# Altium schematic symbol library SCH - IC-MCU - TMS5701224CPGEQQ1.SchLib: 1 symbol
Pins are listed as number, name and electrical type; pins without a type are passive.

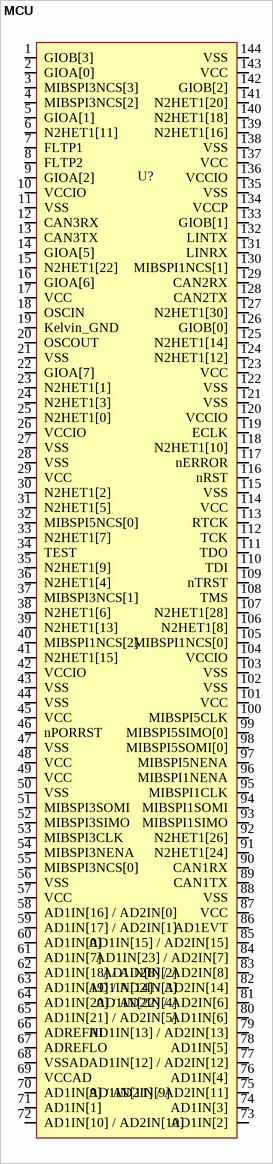
[diagram p0: symbol MCU]

## MCU
designator U?
pins: 1 GIOB[3] (io), 2 GIOA[0] (io), 3 MIBSPI3NCS[3] (io), 4 MIBSPI3NCS[2] (io), 5 GIOA[1] (io), 6 N2HET1[11] (io), 7 FLTP1, 8 FLTP2, 9 GIOA[2] (io), 10 VCCIO (power), 11 VSS (power), 12 CAN3RX (io), 13 CAN3TX (io), 14 GIOA[5] (io), 15 N2HET1[22] (io), 16 GIOA[6] (io), 17 VCC (power), 18 OSCIN (in), 19 Kelvin_GND (in), 20 OSCOUT (out), 21 VSS (power), 22 GIOA[7] (io), 23 N2HET1[1] (io), 24 N2HET1[3] (io), 25 N2HET1[0] (io), 26 VCCIO (power), 27 VSS (power), 28 VSS (power), 29 VCC (power), 30 N2HET1[2] (io), 31 N2HET1[5] (io), 32 MIBSPI5NCS[0] (io), 33 N2HET1[7] (io), 34 TEST (in), 35 N2HET1[9] (io), 36 N2HET1[4] (io), 37 MIBSPI3NCS[1] (io), 38 N2HET1[6] (io), 39 N2HET1[13] (io), 40 MIBSPI1NCS[2] (io), 41 N2HET1[15] (io), 42 VCCIO (power), 43 VSS (power), 44 VSS (power), 45 VCC (power), 46 nPORRST (in), 47 VSS (power), 48 VCC (power), 49 VCC (power), 50 VSS (power), 51 MIBSPI3SOMI (io), 52 MIBSPI3SIMO (io), 53 MIBSPI3CLK (io), 54 MIBSPI3NENA (io), 55 MIBSPI3NCS[0] (io), 56 VSS (power), 57 VCC (power), 58 AD1IN[16] / AD2IN[0] (in), 59 AD1IN[17] / AD2IN[1] (in), 60 AD1IN[0] (in), 61 AD1IN[7] (in), 62 AD1IN[18] / AD2IN[2] (in), 63 AD1IN[19] / AD2IN[3] (in), 64 AD1IN[20] / AD2IN[4] (in), 65 AD1IN[21] / AD2IN[5] (in), 66 ADREFHI (power), 67 ADREFLO (power), 68 VSSAD (power), 69 VCCAD (power), 70 AD1IN[9] / AD2IN[9] (in), 71 AD1IN[1] (in), 72 AD1IN[10] / AD2IN[10] (in), 73 AD1IN[2] (in), 74 AD1IN[3] (in), 75 AD1IN[11] / AD2IN[11] (in), 76 AD1IN[4] (in), 77 AD1IN[12] / AD2IN[12] (in), 78 AD1IN[5] (in), 79 AD1IN[13] / AD2IN[13] (in), 80 AD1IN[6] (in), 81 AD1IN[22] / AD2IN[6] (in), 82 AD1IN[14] / AD2IN[14] (in), 83 AD1IN[8] / AD2IN[8] (in), 84 AD1IN[23] / AD2IN[7] (in), 85 AD1IN[15] / AD2IN[15] (in), 86 AD1EVT (io), 87 VCC (power), 88 VSS (power), 89 CAN1TX (io), 90 CAN1RX (io), 91 N2HET1[24] (io), 92 N2HET1[26] (io), 93 MIBSPI1SIMO (io), 94 MIBSPI1SOMI (io), 95 MIBSPI1CLK (io), 96 MIBSPI1NENA (io), 97 MIBSPI5NENA (io), 98 MIBSPI5SOMI[0] (io), 99 MIBSPI5SIMO[0] (io), 100 MIBSPI5CLK (io), 101 VCC (power), 102 VSS (power), 103 VSS (power), 104 VCCIO (power), 105 MIBSPI1NCS[0] (io), 106 N2HET1[8] (io), 107 N2HET1[28] (io), 108 TMS (in), 109 nTRST (in), 110 TDI (in), 111 TDO (out), 112 TCK (in), 113 RTCK (out), 114 VCC (power), 115 VSS (power), 116 nRST (io), 117 nERROR (io), 118 N2HET1[10] (io), 119 ECLK (io), 120 VCCIO (power), 121 VSS (power), 122 VSS (power), 123 VCC (power), 124 N2HET1[12] (io), 125 N2HET1[14] (io), 126 GIOB[0] (io), 127 N2HET1[30] (io), 128 CAN2TX (io), 129 CAN2RX (io), 130 MIBSPI1NCS[1] (io), 131 LINRX (io), 132 LINTX (io), 133 GIOB[1] (io), 134 VCCP (power), 135 VSS (power), 136 VCCIO (power), 137 VCC (power), 138 VSS (power), 139 N2HET1[16] (io), 140 N2HET1[18] (io), 141 N2HET1[20] (io), 142 GIOB[2] (io), 143 VCC (power), 144 VSS (power)